# Altium footprint library MEC1Finger.PcbLib: 1 footprints
Each footprint in its own frame and in the unit in brackets; x right, y up, seen from the top. Pads: shape width x height; smd on the part's side, far side on the other; paste and mask are expansions set on the pad; w line width, h text height; cw(c..) or ccw(c..) is an arc to the next point about the centre after c.
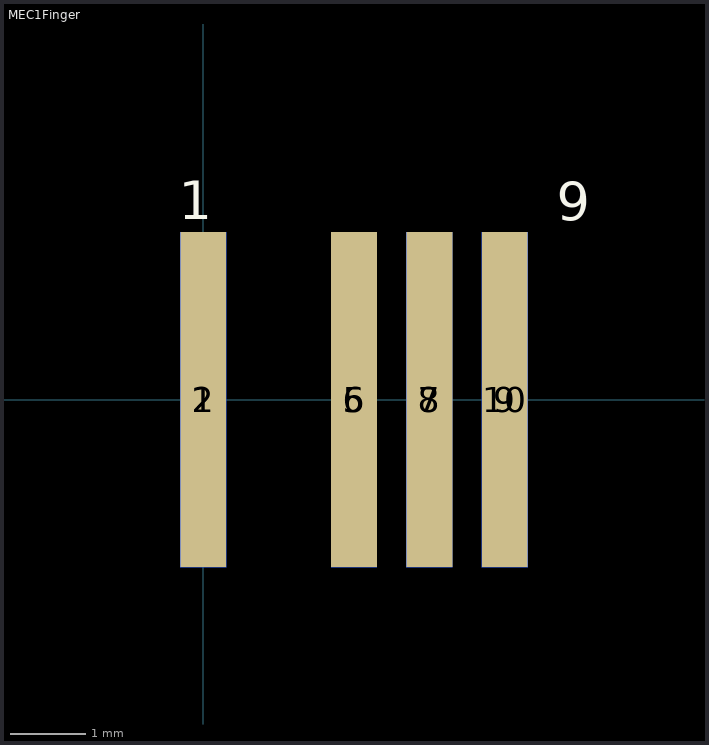
[diagram p0: the footprint, top view; thin cyan lines are the x and y axes]

## MEC1Finger [mil]
height 1
pads (8):
  rect 24x175 smd: 1(0,0) 5(78.8,0) 7(118.2,0) 9(157.6,0)
  rect 24x175 smd far side: 2(0,0) 6(78.8,0) 8(118.2,0) 10(157.6,0)
TopOverlay:
  text "9" at 184.8,93.41 h20
  text "1" at -12.69,94.3 h20
BottomOverlay:
  text "10" at 184.8,93.85 h20
  text "2" at -12.69,93.41 h20